# Altium schematic symbol library DX4R005HJ5R2000.SchLib: 1 symbol
Pins are listed as number, name and electrical type; pins without a type are passive.

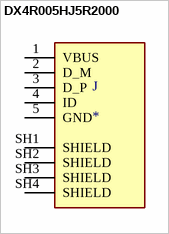
[diagram p0: symbol DX4R005HJ5R2000]

## DX4R005HJ5R2000
designator J
USB - micro B USB 2.0 Receptacle Connector 5 Position Surface Mount, Right Angle; MF: JAE Electronics; MP: DX4R005HJ5R2000; Value: *; Price: None; Package: None; SnapEDA_Link: https://www.snapeda.com/parts/DX4R005HJ5R2000/JAE%20Electronics/view-part/554854/?ref=snap; Availability: Unavailable
footprint JAE_DX4R005HJ5R2000
pins: 1 VBUS, 2 D_M, 3 D_P, 4 ID, 5 GND, SH1 SHIELD, SH2 SHIELD, SH3 SHIELD, SH4 SHIELD